# Altium schematic symbol library SW DIP-4.Schlib: 1 symbol
Pins are listed as number, name and electrical type; pins without a type are passive.

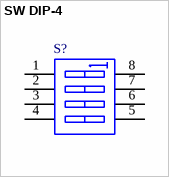
[diagram p0: symbol SW DIP-4]

## SW DIP-4
designator S?
DIP Switch, 4 Position, SPST
pins: 1 A1, 2 A2, 3 A3, 4 A4, 5 B4, 6 B3, 7 B2, 8 B1